# Altium schematic symbol library ICP-20100.SchLib: 1 symbol
Pins are listed as number, name and electrical type; pins without a type are passive.

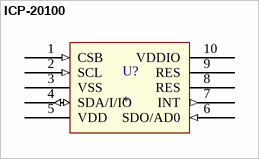
[diagram p0: symbol ICP-20100]

## ICP-20100
designator U?
Manufacturer: Invensens; Reference: ICP-20100
footprint ICP-20100
pins: 1 CSB (in), 2 SCL (in), 3 VSS (power), 4 SDA/I/IO (io), 5 VDD (power), 6 SDO/AD0 (in), 7 INT (out), 8 RES, 9 RES, 10 VDDIO (power)